# Altium footprint library MSD1278.PcbLib: 1 footprints
Each footprint in its own frame and in the unit in brackets; x right, y up, seen from the top. Pads: shape width x height; smd on the part's side, far side on the other; paste and mask are expansions set on the pad; w line width, h text height; cw(c..) or ccw(c..) is an arc to the next point about the centre after c.
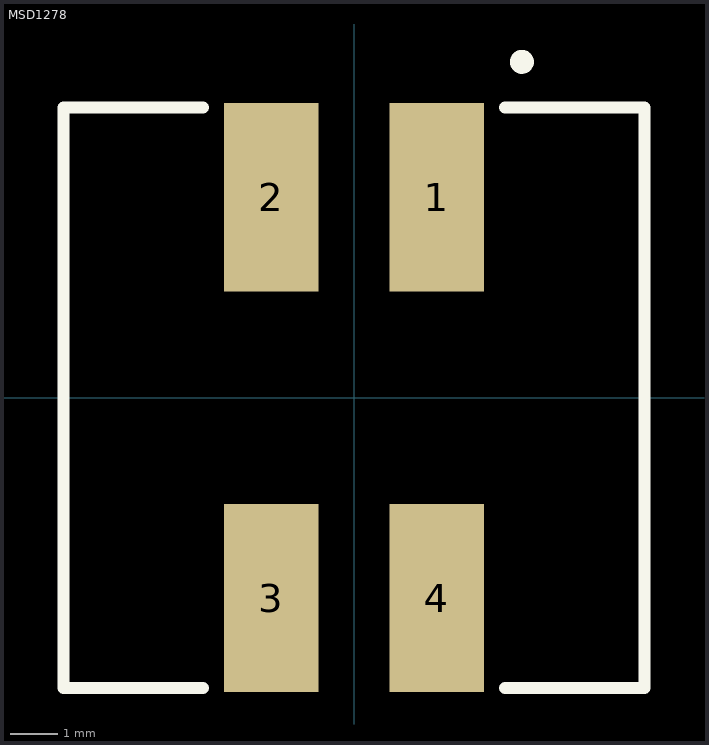
[diagram p0: the footprint, top view; thin cyan lines are the x and y axes]

## MSD1278 [mil]
pads (4):
  rect 79x157 smd: 1(69,167) 2(-69,167) 3(-69,-167) 4(69,-167)
Top Overlay:
  circle w10: c140,280 r5
  lines w10: -126,-242 -242,-242 -242,242 -126,242 ; 126,-242 242,-242 242,242 126,242
3D body: height 320, standoff 0, extent -245,-245 245,245